# Altium footprint library TO508P465X1031X1932-2P.PcbLib: 1 footprints
Each footprint in its own frame and in the unit in brackets; x right, y up, seen from the top. Pads: shape width x height; smd on the part's side, far side on the other; paste and mask are expansions set on the pad; w line width, h text height; cw(c..) or ccw(c..) is an arc to the next point about the centre after c.
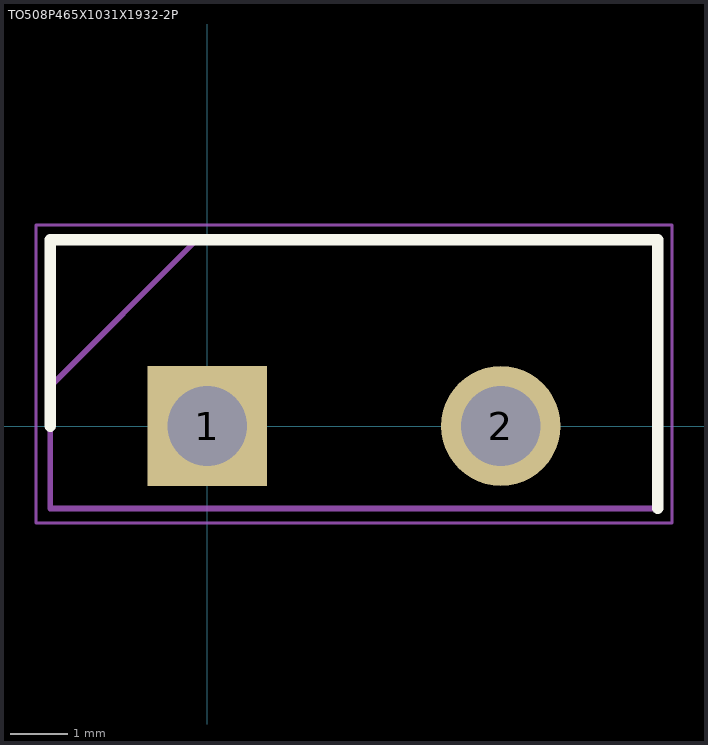
[diagram p0: the footprint, top view; thin cyan lines are the x and y axes]

## TO508P465X1031X1932-2P [mm]
pads (2):
  rect 2.07x2.07 / inner round 2.07 / far side rect 2.07x2.07 hole 1.38: 1(0,0)
  round 2.07 hole 1.38: 2(5.08,0)
Top Overlay:
  lines w0.2: -2.715,0 -2.715,3.225 7.795,3.225 7.795,-1.425
Mechanical 15:
  lines w0.1: -2.715,0.685 -0.175,3.225 ; -2.715,-1.425 7.795,-1.425 7.795,3.225 -2.715,3.225 -2.715,-1.425
Mechanical 20:
  lines w0.05: -2.965,-1.675 8.045,-1.675 8.045,3.475 -2.965,3.475 -2.965,-1.675